# Altium schematic symbol library HEF4543BT_653.SchLib: 1 symbol
Pins are listed as number, name and electrical type; pins without a type are passive.

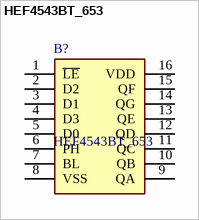
[diagram p0: symbol HEF4543BT_653]

## HEF4543BT_653
designator B?
HEF4543B - BCD to 7-segment latch/decoder/driver@en-us; Manufacturer_Name: Nexperia; Manufacturer_Part_Number: HEF4543BT,653; Geometry.Height: 1.75mm; Mouser Part Number: 771-HEF4543BT653; Mouser Price/Stock: https://www.mouser.co.uk/ProductDetail/Nexperia/HEF4543BT653?qs=me8TqzrmIYWAyDWbNh%252BB7A%3D%3D; Datasheet Link: https://assets.nexperia.com/documents/data-sheet/HEF4543B.pdf
footprint HEF4543BT653
pins: 1 ~{LE}, 2 D2, 3 D1, 4 D3, 5 D0, 6 PH, 7 BL, 8 VSS, 9 QA, 10 QB, 11 QC, 12 QD, 13 QE, 14 QG, 15 QF, 16 VDD